# EAGLE library part MAX2870ETJ+ (library muccc)
MAX2870 23.5 6000 MHz Synth. / VCO
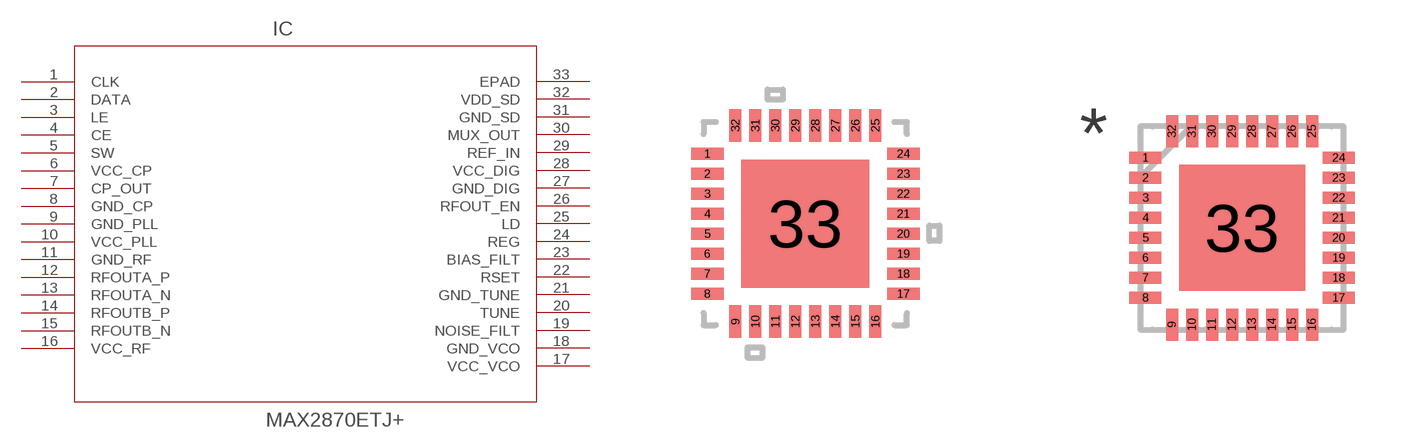
[diagram p1: symbol with the pads of 21-0140L_T3255-5; footprints 21-0140L_T3255-5, 21-0140L_T3255-5-PDF]

Designator prefix IC

## MAX2870ETJ+ (MANUFACTURER_PART_NUMBER: max2870etj+; VENDOR: MAXIM)  [21-0140L_T3255-5]
1  CLK  pas
2  DATA  pas
3  LE  pas
4  CE  pas
5  SW  pas
6  VCC_CP  pwr
7  CP_OUT  out
8  GND_CP  pwr
9  GND_PLL  pwr
10  VCC_PLL  pwr
11  GND_RF  pwr
12  RFOUTA_P  out
13  RFOUTA_N  out
14  RFOUTB_P  out
15  RFOUTB_N  out
16  VCC_RF  pwr
17  VCC_VCO  pwr
18  GND_VCO  pwr
19  NOISE_FILT  pas
20  TUNE  pas
21  GND_TUNE  pwr
22  RSET  pas
23  BIAS_FILT  pas
24  REG  pas
25  LD  pas
26  RFOUT_EN  out
27  GND_DIG  pwr
28  VCC_DIG  pwr
29  REF_IN  in
30  MUX_OUT  out
31  GND_SD  pwr
32  VDD_SD  pwr
33  EPAD  pas

## MAX2870ETJ+PDF  [21-0140L_T3255-5-PDF]
Pads as for 21-0140L_T3255-5

## Footprint 21-0140L_T3255-5 (pad centres in mm)
smd 0.813 x 0.305: 1 -2.451,1.75; 2 -2.451,1.25; 3 -2.451,0.75; 4 -2.451,0.25; 5 -2.451,-0.25; 6 -2.451,-0.75; 7 -2.451,-1.25; 8 -2.451,-1.75; 17 2.451,-1.75; 18 2.451,-1.25; 19 2.451,-0.75; 20 2.451,-0.25; 21 2.451,0.25; 22 2.451,0.75; 23 2.451,1.25; 24 2.451,1.75
smd 0.305 x 0.813: 9 -1.75,-2.451; 10 -1.25,-2.451; 11 -0.75,-2.451; 12 -0.25,-2.451; 13 0.25,-2.451; 14 0.75,-2.451; 15 1.25,-2.451; 16 1.75,-2.451; 25 1.75,2.451; 26 1.25,2.451; 27 0.75,2.451; 28 0.25,2.451; 29 -0.25,2.451; 30 -0.75,2.451; 31 -1.25,2.451; 32 -1.75,2.451
smd 3.2 x 3.2: 33 0,0

## Footprint 21-0140L_T3255-5-PDF (pad centres in mm)
smd 0.8 x 0.3: 1 -2.415,1.75; 2 -2.415,1.25; 3 -2.415,0.75; 4 -2.415,0.25; 5 -2.415,-0.25; 6 -2.415,-0.75; 7 -2.415,-1.25; 8 -2.415,-1.75; 17 2.415,-1.75; 18 2.415,-1.25; 19 2.415,-0.75; 20 2.415,-0.25; 21 2.415,0.25; 22 2.415,0.75; 23 2.415,1.25; 24 2.415,1.75
smd 0.3 x 0.8: 9 -1.75,-2.415; 10 -1.25,-2.415; 11 -0.75,-2.415; 12 -0.25,-2.415; 13 0.25,-2.415; 14 0.75,-2.415; 15 1.25,-2.415; 16 1.75,-2.415; 25 1.75,2.415; 26 1.25,2.415; 27 0.75,2.415; 28 0.25,2.415; 29 -0.25,2.415; 30 -0.75,2.415; 31 -1.25,2.415; 32 -1.75,2.415
smd 3.15 x 3.15: 33 0,0